# Altium footprint library 430450800.PcbLib: 1 footprints
Each footprint in its own frame and in the unit in brackets; x right, y up, seen from the top. Pads: shape width x height; smd on the part's side, far side on the other; paste and mask are expansions set on the pad; w line width, h text height; cw(c..) or ccw(c..) is an arc to the next point about the centre after c.
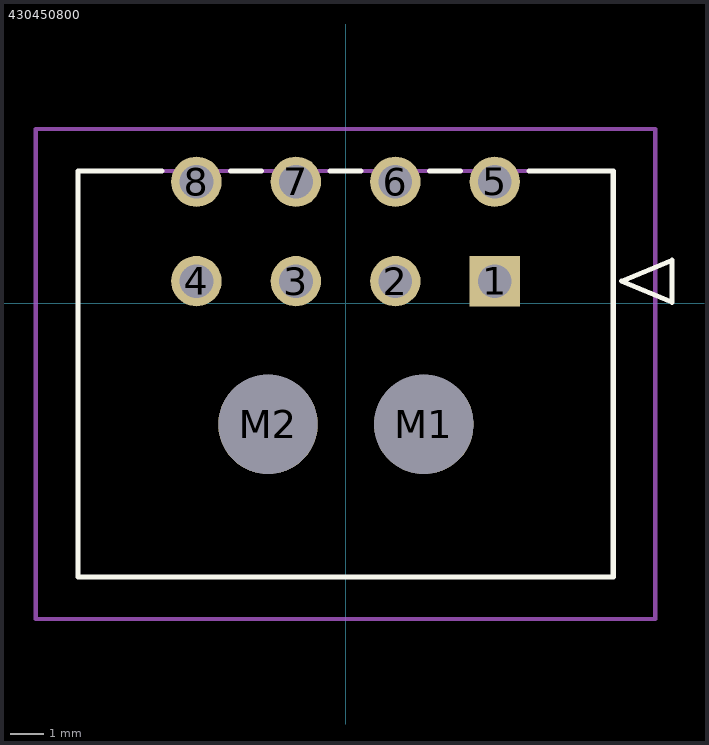
[diagram p0: the footprint, top view; thin cyan lines are the x and y axes]

## 430450800 [mm]
pads (10):
  rect 1.52x1.52 hole 1.02 mask+0.076: 1(4.5,0.66)
  round 1.52 hole 1.02 mask+0.076: 2(1.5,0.66) 3(-1.5,0.66) 4(-4.5,0.66) 5(4.5,3.66) 6(1.5,3.66) 7(-1.5,3.66) 8(-4.5,3.66)
  round 3 hole 3 unplated mask+0.076: M1(2.36,-3.66) M2(-2.34,-3.66)
Top Overlay:
  lines w0.152: -5.532,3.98 -8.075,3.98 -8.075,-8.26 8.075,-8.26 8.075,3.98 5.532,3.98 ; -3.468,3.98 -2.532,3.98 ; -0.468,3.98 0.468,3.98 ; 2.532,3.98 3.468,3.98 ; 8.329,0.66 9.853,0.025 9.853,1.295 8.329,0.66
Mechanical 13:
  lines w0.127: -8.075,-8.26 -8.075,3.98 8.075,3.98 8.075,-8.26 -8.075,-8.26
Mechanical 15:
  lines w0.127: -9.345,-9.53 9.345,-9.53 9.345,5.25 -9.345,5.25 -9.345,-9.53
3D body "430450800.stp": height 8.27, standoff -3.68, extent -8.075,-8.257 8.075,3.983